# Altium schematic symbol library EPS.SchLib: 9 symbols
Pins are listed as number, name and electrical type; pins without a type are passive.

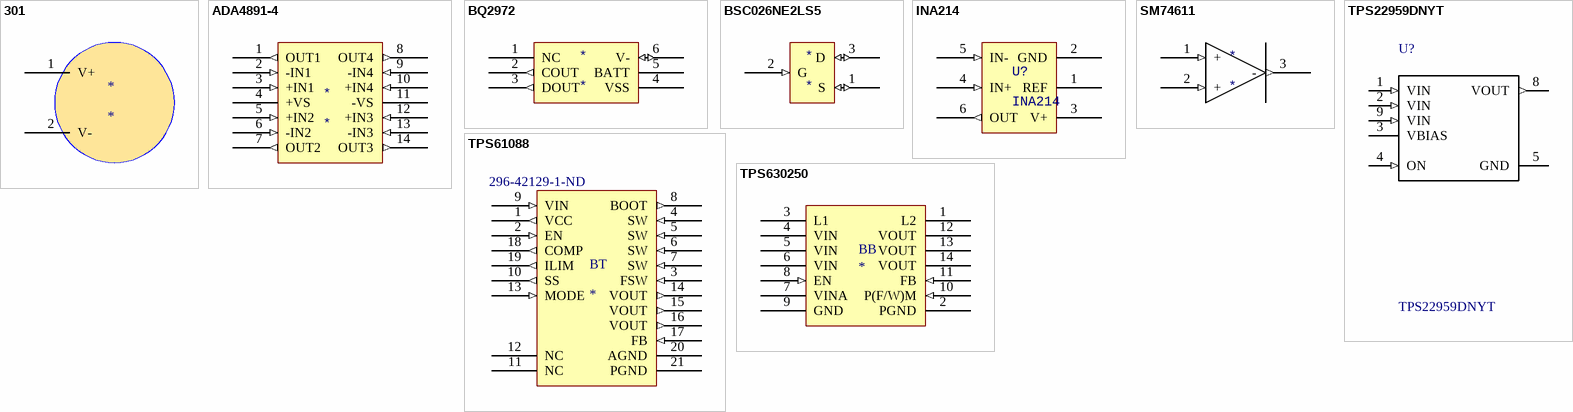
[diagram p0: symbols 301 to TPS630250]

## 301
designator *
footprint 301
pins: 1 V+, 2 V-

## ADA4891-4
designator *
Op-amps
footprint SOP65P640X120-14N (SOP + Pitch P + Lead Span Nominal X Height - #Pins)
pins: 1 OUT1 (out), 2 -IN1 (in), 3 +IN1 (in), 4 +VS (power), 5 +IN2 (in), 6 -IN2 (in), 7 OUT2 (out), 8 OUT4 (out), 9 -IN4 (in), 10 +IN4 (in), 11 -VS (power), 12 +IN3 (in), 13 -IN3 (in), 14 OUT3 (out)

## BQ2972
designator *
Battery protection
footprint SON50P150X150X80-6N
pins: 1 NC, 2 COUT (out), 3 DOUT (out), 4 VSS (power), 5 BATT (power), 6 V- (io)

## BSC026NE2LS5
designator *
MOSFET
footprint INF-PG-TDSON-8-1_V (TDSON, 8-Leads, Body 6.15x5.15mm, Pitch 1.27mm)
pins: 1 S (io), 2 G (in), 3 D (io)

## INA214
designator U?
Current monitor
footprint SOT65P210X110-6N
pins: 1 REF, 2 GND (power), 3 V+ (power), 4 IN+ (in), 5 IN- (in), 6 OUT (out)

## SM74611
designator *
PV Diode
footprint TO254P1435X464-3N
pins: 1 + (in), 2 + (in), 3 - (out)

## TPS22959DNYT
designator U?
5.5V, 15A, 4.4mÎ© Load Switch with Quick Output Discharge 8-WSON -40 to 85; MF: Texas Instruments; Package: WSON-8 Texas Instruments; Digi-Key_Part_Number: 296-47872-1-ND; Digi-Key_Purchase_URL: https://www.digikey.ca/product-detail/en/texas-instruments/TPS22959DNYT/296-47872-1-ND/8133221?utm_source=snapeda&utm_medium=aggregator&utm_campaign=symbol; SnapEDA_Link: https://www.snapeda.com/parts/TPS22959DNYT/Texas%20Instruments/view-part/?ref=snap; MP: TPS22959DNYT; Value: *
footprint TPS22959DNYT
pins: 1 VIN (in), 2 VIN (in), 3 VBIAS (power), 4 ON (in), 5 GND (power), 8 VOUT (out), 9 VIN (in)

## TPS61088
designator BT  Supplier Part Number 1: 296-42129-1-ND
Boost converter; Supplier 1: Digi-Key
footprint QFN50P450X350X100-21N (Footprint not found)
pins: 1 VCC (out) "Output of the internal regulator. A ceramic capacitor of more than 1.0 µF is required between this pin and ground.", 2 EN (in), 3 FSW (in), 4 SW (in), 5 SW (in), 6 SW (in), 7 SW (in), 8 BOOT (out), 9 VIN (in), 10 SS (out), 11 NC, 12 NC, 13 MODE (in), 14 VOUT (out), 15 VOUT (out), 16 VOUT (out), 17 FB (in), 18 COMP (out), 19 ILIM (out), 20 AGND (power), 21 PGND (power)

## TPS630250
designator BB
Buck-boost converter
footprint RNC0014A
pins: 1 L2 (power), 2 PGND (power), 3 L1 (power), 4 VIN (power), 5 VIN (power), 6 VIN (power), 7 VINA (power), 8 EN (in), 9 GND (power), 10 P(F/W)M (in), 11 FB (in), 12 VOUT, 13 VOUT, 14 VOUT